# Altium footprint library BNC_connectors.PcbLib: 4 footprints
Each footprint in its own frame and in the unit in brackets; x right, y up, seen from the top. Pads: shape width x height; smd on the part's side, far side on the other; paste and mask are expansions set on the pad; w line width, h text height; cw(c..) or ccw(c..) is an arc to the next point about the centre after c.
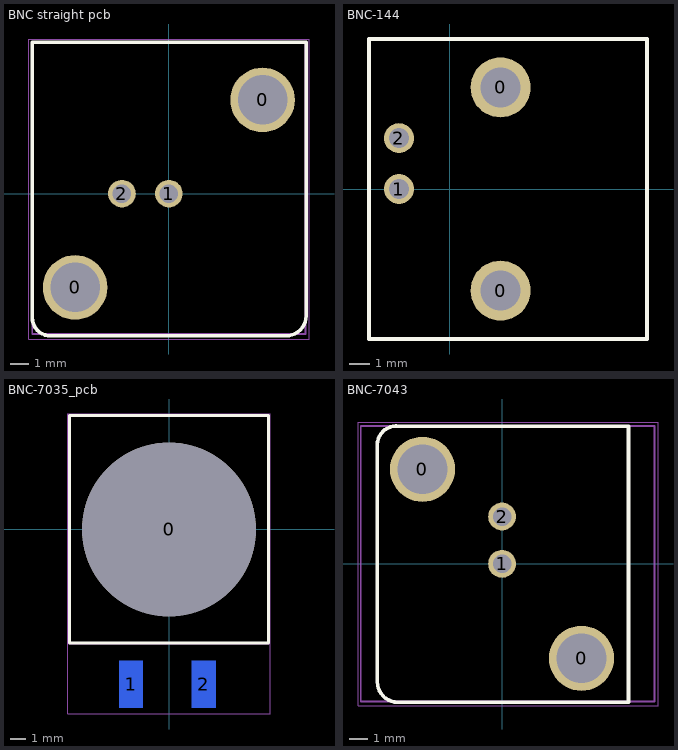
[diagram p0: the footprints below, top view; thin cyan lines are the x and y axes]

## BNC straight pcb [mm] "BNC Connector Jack, Female Socket 50 Ohm Panel Mount, Through Hole Solder"
height 35
pads (4):
  round 3.5 hole 2.68: 0(-5.08,-5.08) 0(5.08,5.08)
  round 1.5 hole 1: 1(0,0) 2(-2.54,0)
Top Overlay:
  lines w0.2: -7.404,-6.709 ccw(c-6.404,-6.705) -6.4,-7.705 6.348,-7.705 ccw(c6.348,-6.613) 7.44,-6.613 7.44,8.2 -7.4,8.2 -7.4,-6.709
Top Assembly:
  lines w0.1: -7.4,-7.6 7.4,-7.6 7.4,8.2 -7.4,8.2 -7.4,-7.6
  text ".Designator" at -4.998,-0.333 h1
Top Courtyard (Mech15):
  lines w0.05: -7.6,-7.874 7.62,-7.874 7.62,8.382 -7.6,8.382 -7.6,-7.874
3D body "bnc-7043.stp": height 35.5, standoff -4.25, extent -7.38,-7.6 7.38,8.2

## BNC-144 [mm]
pads (4):
  round 3 hole 2: 0(2.54,-5.08) 0(2.54,5.08)
  round 1.5 hole 1: 1(-2.54,0) 2(-2.54,2.54)
Top Overlay:
  lines w0.2: -4.04,-7.5 9.86,-7.5 9.86,7.5 -4.04,7.5 -4.04,-7.5
Top Assembly:
  lines w0.1: -4.04,-7.5 -4.04,7.5 9.86,7.5 9.86,-7.5 -4.04,-7.5
  text ".Designator" at -4.998,-0.333 h1
Top Courtyard (Mech15):
  lines w0.05: -4.04,-7.5 9.86,-7.5 9.86,7.5 -4.04,7.5 -4.04,-7.5
3D body "User Library-NCB-0142.STEP": height 13.19, standoff -4.11, extent -3.81,-7.379 31.115,7.379

## BNC-7035_pcb [mm] "BNC Connector Jack, Female Socket 50 Ohm Panel Mount, Through Hole Solder"
height 35
pads (3):
  round 11 hole 11 unplated paste+0: 0(0,0)
  rect 1.5x3 smd far side: 1(-2.4,-9.8) 2(2.2,-9.8)
Top Overlay:
  lines w0.2: -6.3,-7.2 -6.3,7.2 6.3,7.2 6.3,-7.2 -6.3,-7.2
Top Assembly:
  lines w0.1: -6.35,-7.25 -6.35,7.25 6.35,7.25 6.35,-7.25 -6.35,-7.25
  text ".Designator" at -4.998,-0.333 h1
Top Courtyard (Mech15):
  lines w0.05: -6.4,-11.684 -6.4,7.3 6.4,7.3 6.4,-11.684 -6.4,-11.684
3D body "BNC-7035.STEP": height 19.46, standoff -8.94, extent -6.35,-7.25 6.35,7.25

## BNC-7043 [mm] "BNC Connector Jack, Female Socket 50 Ohm Panel Mount, Through Hole Solder"
height 35
pads (4):
  round 3.5 hole 2.68: 0(-4.28,5.08) 0(4.27,-5.08)
  round 1.5 hole 1: 1(0,0) 2(0,2.54)
Top Overlay:
  lines w0.2: -5.709,7.4 6.8,7.4 6.8,-7.44 -5.613,-7.44 cw(c-5.613,-6.348) -6.705,-6.348 -6.705,6.4 cw(c-5.705,6.404) -5.709,7.404
Top Assembly:
  lines w0.1: -7.6,-7.4 8.2,-7.4 8.2,7.4 -7.6,7.4 -7.6,-7.4
  text ".Designator" at -4.998,-0.333 h1
Top Courtyard (Mech15):
  lines w0.05: -7.747,-7.62 -7.747,7.6 8.382,7.6 8.382,-7.62 -7.747,-7.62
3D body "bnc-7043.stp": height 35.5, standoff -4.25, extent -7.6,-7.38 8.2,7.38